# Altium schematic symbol library Aluminium Electrolyt - V_Chip.SchLib: 1 symbol
Pins are listed as number, name and electrical type; pins without a type are passive.

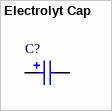
[diagram p0: symbol Electrolyt Cap]

## Electrolyt Cap
designator C?
WCAP-ASLI Aluminum Electrolytic Capacitor, V-Chip, SMT, D16xH17mm; Manufacturer Part Number: 865080163018; Manufacturer: Wurth Elektronik; Technical Reference: ASEK170682M6R3DVCTHB000; Ripple Current: 1250mA; Capacitance Tolerance: +/-20%; Leakage Current: 428.4uA; Endurance: 2000h; Dissipation Factor: 24%; Capacitance: 6800uF; Rated Voltage: 6.3VDC; Packaging: Tape and Reel; Published Date: October 2020; Operating Temperature: -55 to +105degC; Mounting Technology: SMT; Height: 17mm; ComponentLink1Description: Manufacturer; ComponentLink1URL: http://www.we-online.de; ComponentLink2Description: Datasheet; ComponentLink2URL: https://www.we-online.com/catalog/datasheet/865080163018.pdf; Diameter: 16mm
pins: 1 P, 2 N